# Altium footprint library Low frequency N32G452RX_20220819-V3.PcbLib: 34 footprints (part 3 of 3)
Each footprint in its own frame and in the unit in brackets; x right, y up, seen from the top. Pads: shape width x height; smd on the part's side, far side on the other; paste and mask are expansions set on the pad; w line width, h text height; cw(c..) or ccw(c..) is an arc to the next point about the centre after c.
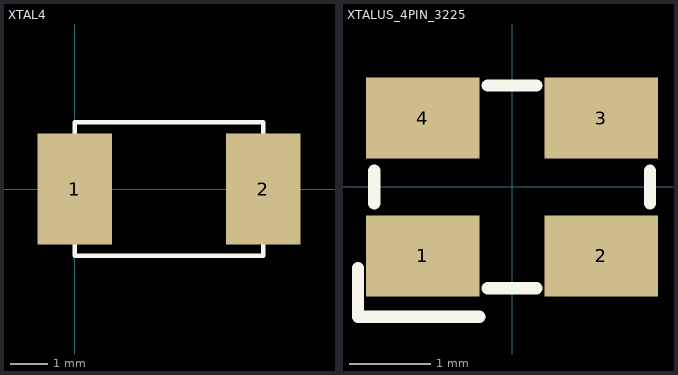
[diagram p2: the footprints below, top view; thin cyan lines are the x and y axes]

## XTAL4 [mm]
pads (2):
  rect 2x3 smd: 1(0,0) 2(5.08,0)
Top Overlay:
  lines w0.127: 0,-1.8 5.08,-1.8 5.08,1.8 0,1.8 0,0 0,-1.8

## XTALUS_4PIN_3225 [mm] "XTAL_4PIN 3225"
height 0.5
pads (4):
  rect 1.4x1 smd: 1(-1.1,-0.85) 2(1.1,-0.85) 3(1.1,0.85) 4(-1.1,0.85)
Top Overlay:
  lines w0.15: -1.9,-1 -1.9,-1.6 -0.4,-1.6 ; -1.7,-0.2 -1.7,0.2 ; -0.3,-1.25 0.3,-1.25 ; -0.3,1.25 0.3,1.25 ; 1.7,-0.2 1.7,0.2